# EAGLE library part 70020K (library 70020K)
Transformer Toroidal PCB 5VA 2x7V o/p 2 Output Toroidal Transformer, 5VA, 2 x 7V ac Source: Datasheet
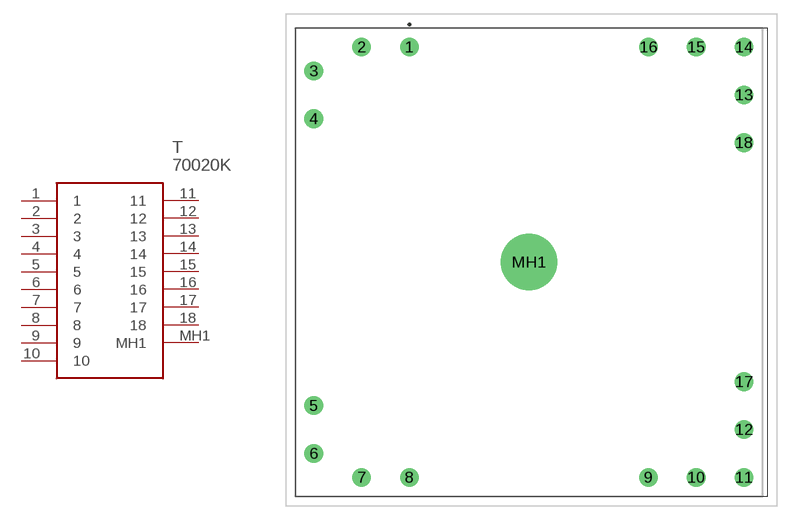
[diagram p0: symbol with the pads of 70020K; footprint 70020K]

Designator prefix T

## 70020K (Description: Transformer Toroidal PCB 5VA 2x7V o/p 2 Output Toroidal Transformer, 5VA, 2 x 7V ac; Height: 19.5mm; Manufacturer_Name: Nuvotem Talema; Manufacturer_Part_Number: 70020K)  [70020K]
1  1
2  2
3  3
4  4
5  5
6  6
7  7
8  8
9  9
10  10
11  11
12  12
13  13
14  14
15  15
16  16
17  17
18  18
MH1  MH1

## Footprint 70020K (pad centres in mm)
70020K-3
drill 1.32 pad 1.98: 1 0,0; 2 -5.08,0; 3 -10.16,-2.54; 4 -10.16,-7.62; 5 -10.16,-38.1; 6 -10.16,-43.18; 7 -5.08,-45.72; 8 0,-45.72; 9 25.4,-45.72; 10 30.48,-45.72; 11 35.56,-45.72; 12 35.56,-40.64; 13 35.56,-5.08; 14 35.56,0; 15 30.48,0; 16 25.4,0; 17 35.56,-35.56; 18 35.56,-10.16
drill 4 pad 6: MH1 12.7,-22.86